# Altium footprint library TMPW_5-103.PcbLib: 1 footprints
Each footprint in its own frame and in the unit in brackets; x right, y up, seen from the top. Pads: shape width x height; smd on the part's side, far side on the other; paste and mask are expansions set on the pad; w line width, h text height; cw(c..) or ccw(c..) is an arc to the next point about the centre after c.
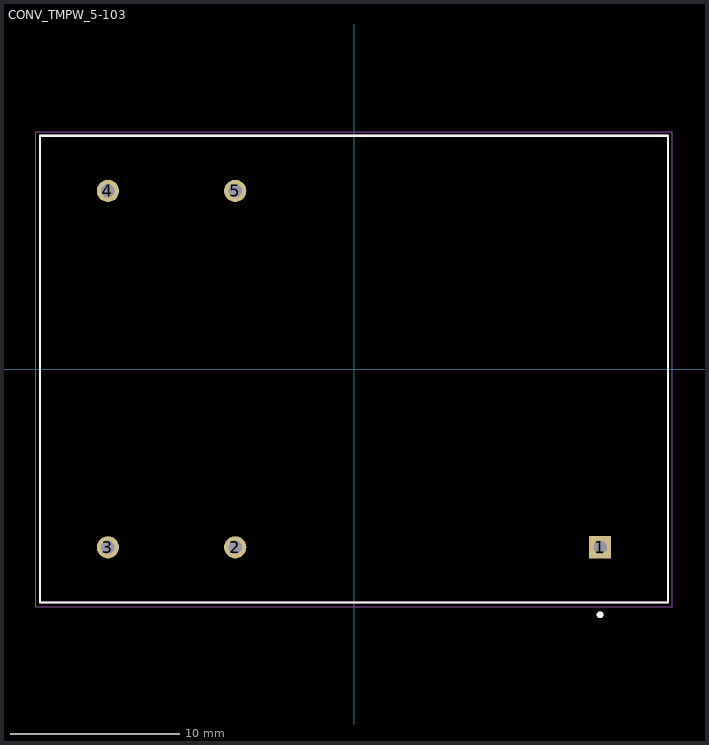
[diagram p0: the footprint, top view; thin cyan lines are the x and y axes]

## CONV_TMPW_5-103 [mm]
pads (5):
  rect 1.308x1.308 hole 0.8: 1(14.5,-10.5)
  round 1.308 hole 0.8: 2(-7,-10.5) 3(-14.5,-10.5) 4(-14.5,10.5) 5(-7,10.5)
Top Overlay:
  circle w0.2: c14.5,-14.478 r0.1
  lines w0.127: -18.5,-13.75 -18.5,13.75 18.5,13.75 18.5,-13.75 -18.5,-13.75
Mechanical 13:
  circle w0.2: c14.5,-14.478 r0.1
  lines w0.127: -18.5,-13.75 -18.5,13.75 18.5,13.75 18.5,-13.75 -18.5,-13.75
Mechanical 15:
  lines w0.05: -18.75,-14 -18.75,14 18.75,14 18.75,-14 -18.75,-14
3D body "Unnamed-TMPW 5.step": height 18.2, standoff -2.8, extent -31.888,-31.997 31.865,31.702